# Altium schematic symbol library 2171790001.SchLib: 1 symbol
Pins are listed as number, name and electrical type; pins without a type are passive.

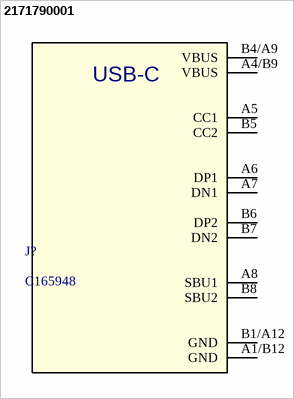
[diagram p0: symbol 2171790001]

## 2171790001
designator J?, comment C165948
JLCPCB: C165948 / Korean Hroparts Elec; Mfr_Name: Korean Hroparts Elec; RefDes: RefDes; Type: Type
footprint 2171790001_MOL
pins: A1/B12 GND (power), A4/B9 VBUS (power), A5 CC1, A6 DP1, A7 DN1, A8 SBU1, B1/A12 GND (power), B4/A9 VBUS (power), B5 CC2, B6 DP2, B7 DN2, B8 SBU2
text: USB-C